# Altium footprint library 692141030100.PcbLib: 1 footprints
Each footprint in its own frame and in the unit in brackets; x right, y up, seen from the top. Pads: shape width x height; smd on the part's side, far side on the other; paste and mask are expansions set on the pad; w line width, h text height; cw(c..) or ccw(c..) is an arc to the next point about the centre after c.
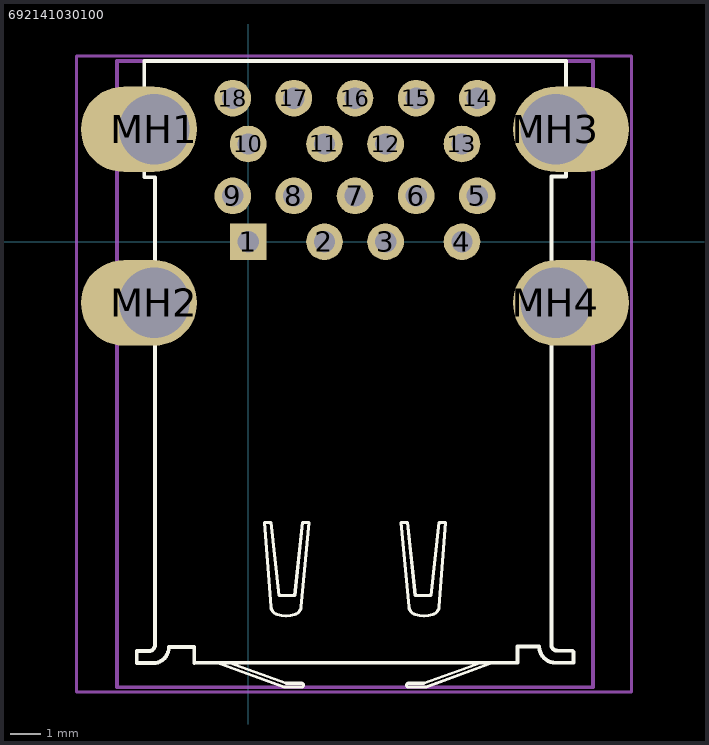
[diagram p0: the footprint, top view; thin cyan lines are the x and y axes]

## 692141030100 [mm]
pads (22):
  rect 1.2x1.2 hole 0.7: 1(0,0)
  round 1.2 hole 0.7: 2(2.5,0) 3(4.5,0) 4(7,0) 5(7.5,1.5) 6(5.5,1.5) 7(3.5,1.5) 8(1.5,1.5) 9(-0.5,1.5) 10(0,3.2) 11(2.5,3.2) 12(4.5,3.2) 13(7,3.2) 14(7.5,4.7) 15(5.5,4.7) 16(3.5,4.7) 17(1.5,4.7) 18(-0.5,4.7)
  oval 3.8x2.8 hole 2.3 copper offset -0.5,0: MH1(-3.07,3.68) MH2(-3.07,-2)
  oval 3.8x2.8 hole 2.3 copper offset 0.5,0: MH3(10.07,3.68) MH4(10.07,-2)
Top Overlay:
  lines w0.102: -1.006,-13.78 1.175,-14.575 1.75,-14.575 ccw(c1.75,-14.512) 1.75,-14.45 1.25,-14.45 -0.622,-13.78 ; 0.749,-11.943 ccw(c1.043,-11.921) 0.956,-12.203 ccw(c1.242,-11.272) 1.527,-12.203 ccw(c1.441,-11.921) 1.735,-11.943 1.995,-9.192 1.787,-9.192 1.527,-11.58 1.008,-11.58 0.749,-9.192 0.541,-9.192 0.749,-11.943 ; 7.622,-13.78 5.75,-14.45 5.25,-14.45 ccw(c5.25,-14.512) 5.25,-14.575 5.825,-14.575 7.986,-13.78 ; 5.005,-9.192 5.265,-11.943 ccw(c5.559,-11.921) 5.473,-12.203 ccw(c5.758,-11.272) 6.044,-12.203 ccw(c5.957,-11.921) 6.251,-11.943 6.459,-9.192 6.251,-9.192 5.992,-11.58 5.473,-11.58 5.213,-9.192 5.005,-9.192
  lines w0.127: -1.762,-13.792 -1.762,-13.266 -2.589,-13.266 cw(c-3.116,-13.266) -3.116,-13.792 -3.642,-13.792 -3.642,-13.397 -3.247,-13.397 ccw(c-3.247,-13.2) -3.05,-13.2 -3.05,2.11 -3.4,2.11 -3.4,5.92 10.4,5.92 10.4,2.13 ; -1.75,-13.78 8.82,-13.78 8.82,-13.253 9.531,-13.253 ccw(c10.058,-13.253) 10.058,-13.78 10.65,-13.78 10.65,-13.451 ccw(c10.584,-13.451) 10.584,-13.385 10.123,-13.385 cw(c10.123,-13.188) 9.926,-13.188 9.926,2.13 10.394,2.13
Top Assembly:
  lines w0.127: -4.294,-14.58 -4.294,5.92 11.294,5.92 11.294,-14.58 -4.294,-14.58
Top Courtyard:
  lines w0.1: -5.614,-14.743 -5.614,6.085 12.547,6.085 12.547,-2.17 12.547,-14.743 -5.614,-14.743
3D body "692141030100.stp": height 16.11, standoff -3.5, extent -4.293,-14.58 11.293,5.92